# EAGLE library part MAX5816ATB+ (library MAX5816)
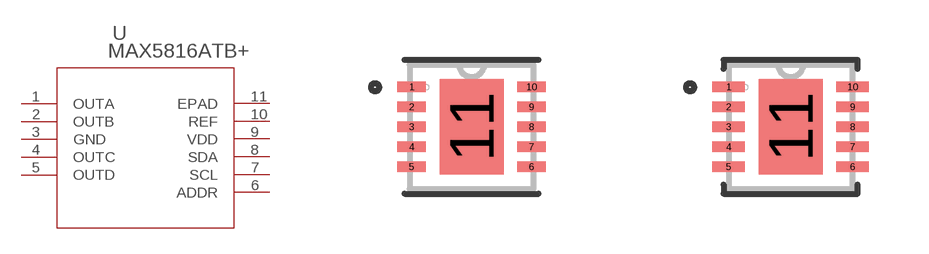
[diagram p0: symbol with the pads of 21-0137_T1033+1C_MXM; footprints 21-0137_T1033+1C_MXM, 21-0137_T1033+1C_MXM-M]

Designator prefix U

## MAX5816ATB+ (COPYRIGHT: Copyright (C) 2022 Ultra Librarian. All rights reserved.; MANUFACTURER_PART_NUMBER: MAX5816ATB+; MFR_NAME: Maxim Integrated Products)  [21-0137_T1033+1C_MXM]
1  OUTA  out
2  OUTB  out
3  GND  pwr
4  OUTC  out
5  OUTD  out
6  ADDR  in
7  SCL  in
8  SDA
9  VDD  pwr
10  REF
11  EPAD  pas

## MAX5816ATB+21-0137_T1033+1C_MXM-M (COPYRIGHT: Copyright (C) 2022 Ultra Librarian. All rights reserved.; MANUFACTURER_PART_NUMBER: MAX5816ATB+; MFR_NAME: Maxim Integrated Products)  [21-0137_T1033+1C_MXM-M]
Pads as for 21-0137_T1033+1C_MXM

## MAX5816ATB+21-0137_T1033+1C_MXM-L (COPYRIGHT: Copyright (C) 2022 Ultra Librarian. All rights reserved.; MANUFACTURER_PART_NUMBER: MAX5816ATB+; MFR_NAME: Maxim Integrated Products)  [21-0137_T1033+1C_MXM-L]
Pads as for 21-0137_T1033+1C_MXM

## Footprint 21-0137_T1033+1C_MXM (pad centres in mm)
smd 0.711 x 0.254: 1 -1.499,1; 2 -1.499,0.5; 3 -1.499,0; 4 -1.499,-0.5; 5 -1.499,-1; 6 1.499,-1; 7 1.499,-0.5; 8 1.499,0; 9 1.499,0.5; 10 1.499,1
smd 1.6 x 2.388: 11 0,0

## Footprint 21-0137_T1033+1C_MXM-M (pad centres in mm)
smd 0.813 x 0.254: 1 -1.549,1; 2 -1.549,0.5; 3 -1.549,0; 4 -1.549,-0.5; 5 -1.549,-1; 6 1.549,-1; 7 1.549,-0.5; 8 1.549,0; 9 1.549,0.5; 10 1.549,1
smd 1.6 x 2.388: 11 0,0

## Footprint 21-0137_T1033+1C_MXM-L (pad centres in mm)
smd 0.61 x 0.254: 1 -1.448,1; 2 -1.448,0.5; 3 -1.448,0; 4 -1.448,-0.5; 5 -1.448,-1; 6 1.448,-1; 7 1.448,-0.5; 8 1.448,0; 9 1.448,0.5; 10 1.448,1
smd 1.6 x 2.388: 11 0,0